# EAGLE library part MAX1647 (library diode-20CJQ030)
Maxim's MAX1647 Chemistry-Independent Battery Chargers General Description: The MAX1647/MAX1648 provide the power control necessary to charge batteries of any chemistry. In the MAX1647, all charging functions are controlled through the Intel System Management Bus (SMBus?) interface. The SMBus 2-wire serial interface sets the charge voltage and current, and provides thermal status information. The MAX1647 functions as a level 2 charger, compliant with the Duracell/Intel Smart Battery Charger Specification. The MAX1648 omits the SMBus serial interface, and instead sets the charge voltage and current proportional to the voltage applied to external control pins. In addition to the feature set required for a level 2 charger, the MAX1647 generates interrupts to signal the host when power is applied to the charger or a battery is installed or removed. Additional status bits allow the host to check whether the charger has enough input voltage, and whether the voltage on or current into the battery is being regulated. This allows the host to determine when lithiumion batteries have completed charge without interrogating the battery. The MAX1647 is available in a 20-pin SSOP with a 2mm profile height. The MAX1648 is available in a 16-pin SO package. Features: Charges Any Battery Chemistry: Li-Ion, NiCd, NiMH, Lead Acid, etc. Intel SMBus 2-Wire Serial Interface (MAX1647) Intel/Duracell Level 2 Smart Battery Compliant (MAX1647) 4A, 2A, or 1A Maximum Battery-Charge Current 11-Bit Control of Charge Current Up to 18V Battery Voltage 10-Bit Control of Voltage ±0.75% Voltage Accuracy with External ±0.1% Reference Up to 28V Input Voltage Battery Thermistor Fail-Safe Protection Applications: Notebook Computers Personal Digital Assistants Charger Base Stations Phones Please send any comments to: messi@users.sourceforge.net
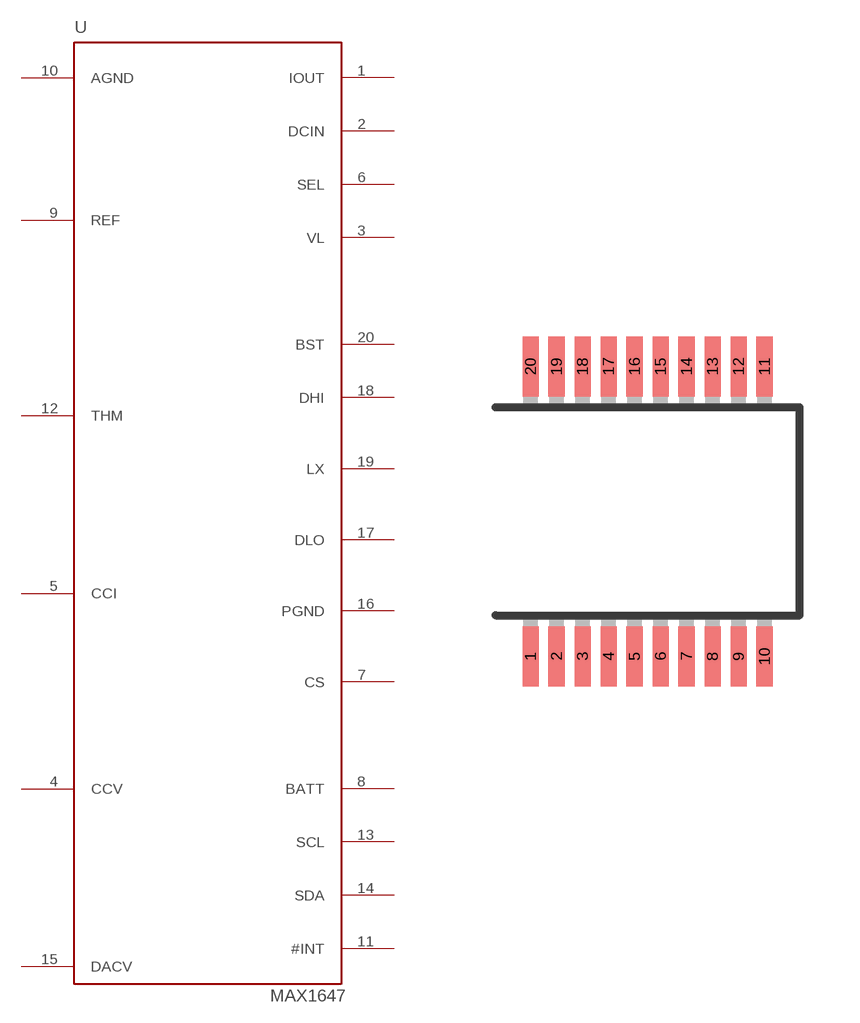
[diagram p50: symbol with the pads of SSOP20; footprint SSOP20]

Designator prefix U

## MAX1647  [SSOP20]
1  IOUT
2  DCIN
3  VL
4  CCV
5  CCI
6  SEL
7  CS
8  BATT
9  REF
10  AGND
11  #INT
12  THM
13  SCL
14  SDA
15  DACV
16  PGND
17  DLO
18  DHI
19  LX
20  BST

## Footprint SSOP20 (pad centres in mm)
Shrink Small Outline Package package type SS
smd 0.4 x 1.5: 1 -2.925,-3.625; 2 -2.275,-3.625; 3 -1.625,-3.625; 4 -0.975,-3.625; 5 -0.325,-3.625; 6 0.325,-3.625; 7 0.975,-3.625; 8 1.625,-3.625; 9 2.275,-3.625; 10 2.925,-3.625; 11 2.925,3.625; 12 2.275,3.625; 13 1.625,3.625; 14 0.975,3.625; 15 0.325,3.625; 16 -0.325,3.625; 17 -0.975,3.625; 18 -1.625,3.625; 19 -2.275,3.625; 20 -2.925,3.625